# EAGLE library part MAX17055ETB+ (library NM_Visual_Cortex_12-10-18)
IC FUEL GAUGE MODELGAUGE
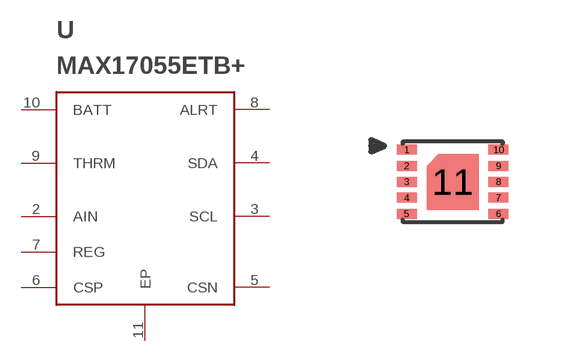
[diagram p16: symbol with the pads of TDFN-10EP; footprint TDFN-10EP]

Designator prefix U

## MAX17055ETB+  [TDFN-10EP]
2  AIN
3  SCL
4  SDA
5  CSN
6  CSP
7  REG
8  ALRT
9  THRM
10  BATT
11  EP

## Footprint TDFN-10EP (pad centres in mm)
smd 0.5 x 0.25: 1 -1.15,0.8; 2 -1.15,0.4; 3 -1.15,0; 4 -1.15,-0.4; 5 -1.15,-0.8; 6 1.15,-0.8; 7 1.15,-0.4; 8 1.15,0; 9 1.15,0.4; 10 1.15,0.8
smd 1 x 1: 11 0,0